# Altium footprint library MLACHQ_S.PCBLIB: 155 footprints (part 7 of 10)
Each footprint in its own frame and in the unit in brackets; x right, y up, seen from the top. Pads: shape width x height; smd on the part's side, far side on the other; paste and mask are expansions set on the pad; w line width, h text height; cw(c..) or ccw(c..) is an arc to the next point about the centre after c.
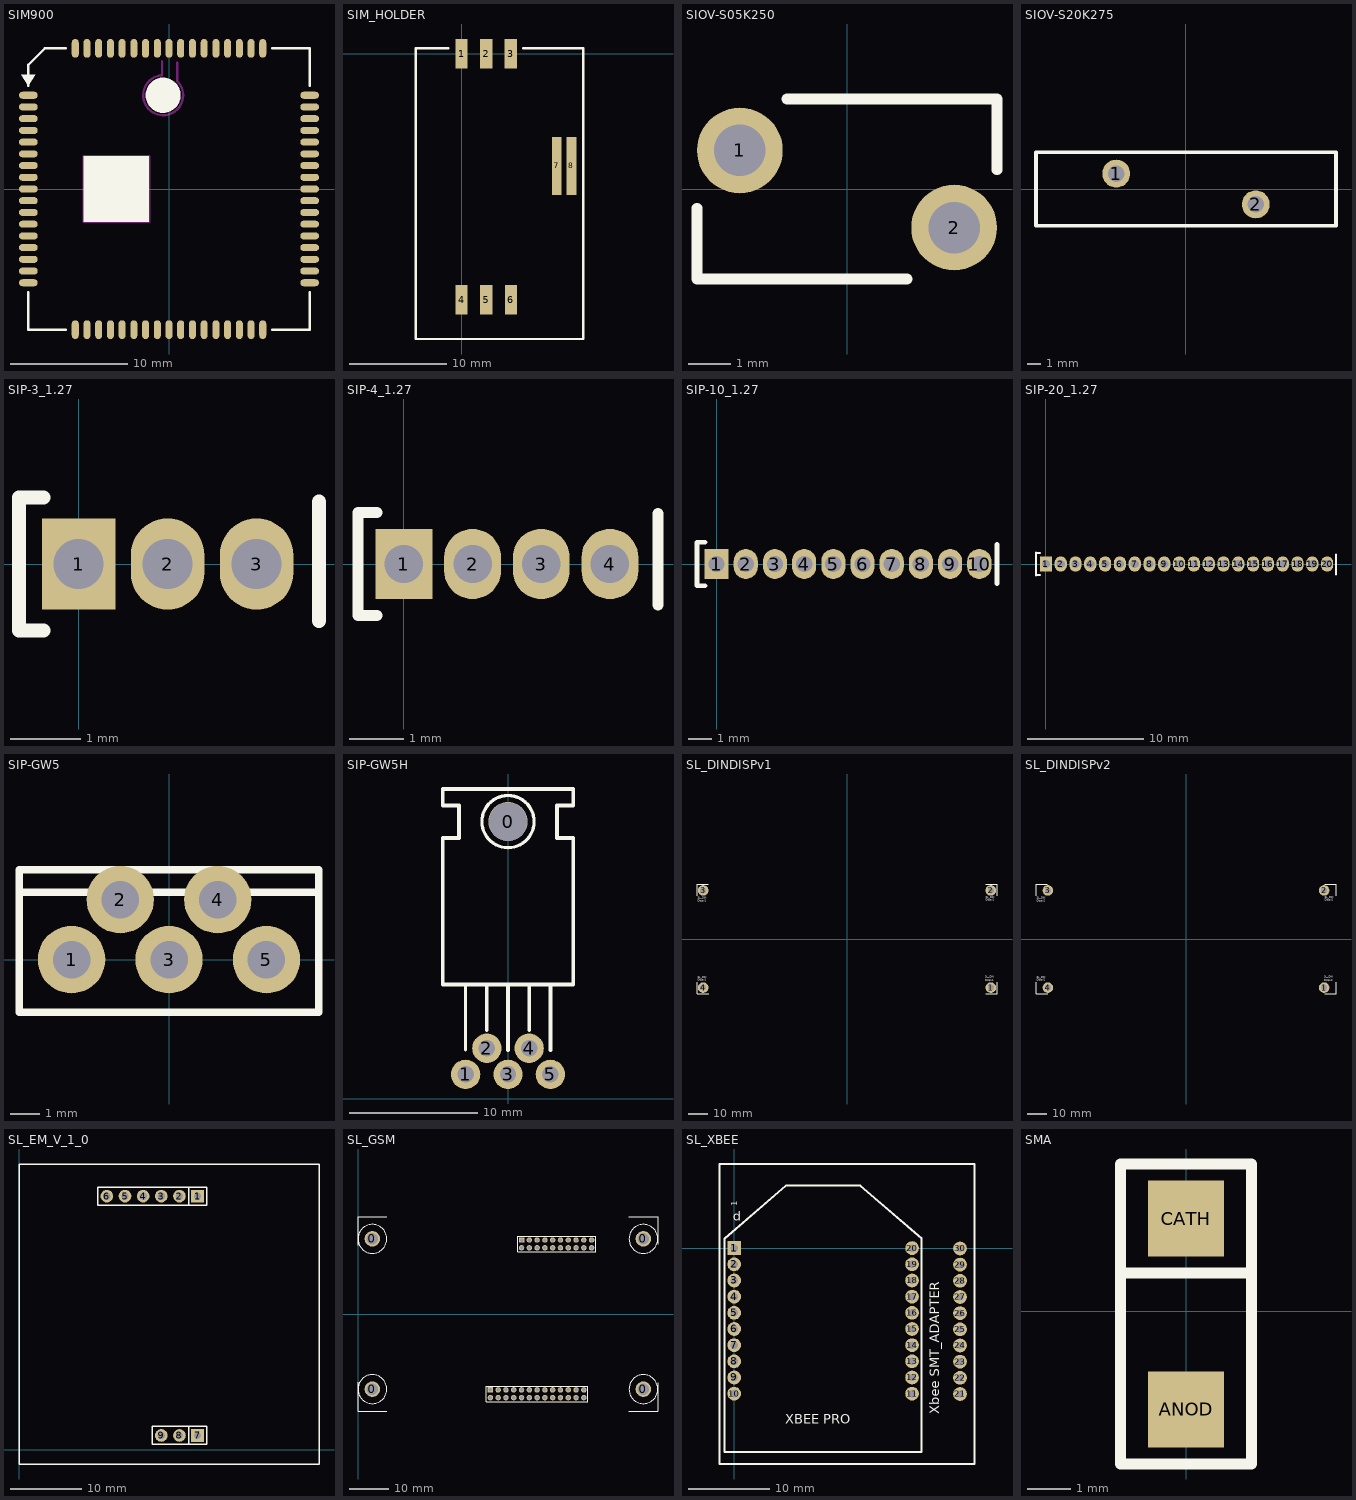
[diagram p6: the footprints below, top view; thin cyan lines are the x and y axes]

## SIM900 [mm]
pads (68):
  oval 1.6x0.6 smd: 1(-12,8) 2(-12,7) 3(-12,6) 4(-12,5) 5(-12,4) 6(-12,3) 7(-12,2) 8(-12,1) 9(-12,0) 10(-12,-1) 11(-12,-2) 12(-12,-3) 13(-12,-4) 14(-12,-5) 15(-12,-6) 16(-12,-7) 17(-12,-8) 35(12,-8) 36(12,-7) 37(12,-6) 38(12,-5) 39(12,-4) 40(12,-3) 41(12,-2) 42(12,-1) 43(12,0) 44(12,1) 45(12,2) 46(12,3) 47(12,4) 48(12,5) 49(12,6) 50(12,7) 51(12,8)
  oval 0.6x1.6 smd: 18(-8,-12) 19(-7,-12) 20(-6,-12) 21(-5,-12) 22(-4,-12) 23(-3,-12) 24(-2,-12) 25(-1,-12) 26(0,-12) 27(1,-12) 28(2,-12) 29(3,-12) 30(4,-12) 31(5,-12) 32(6,-12) 33(7,-12) 34(8,-12) 52(8,12) 53(7,12) 54(6,12) 55(5,12) 56(4,12) 57(3,12) 58(2,12) 59(1,12) 60(0,12) 61(-1,12) 62(-2,12) 63(-3,12) 64(-4,12) 65(-5,12) 66(-6,12) 67(-7,12) 68(-8,12)
TopLayer keep-out:
  lines w0.2: -0.648,9.696 ccw(c-0.5,8) 0.704,9.204 0.7,9.204 0.7,10.8 ; -0.6,9.7 -0.6,10.9 ; -7.3,-2.8 -1.7,-2.8 -1.7,2.8 -7.3,2.8 -7.3,-2.8
TopOverlay:
  circle w1.5: c-0.5,8 r0.75
  rectangle: -7.3,-2.8 -1.7,2.8
  region: -11.4,9.75 -12.6,9.75 -12,8.8
  lines w0.2: -12,-8.8 -12,-12 -8.8,-12 ; -12,8.8 -12,10.6 -10.6,12 -8.8,12 ; 8.8,-12 12,-12 12,-8.8 ; 8.8,12 12,12 12,8.8
3D body: height 1, standoff 0, extent -12,-6.3 -11.7,-5.7
3D body: height 1, standoff 0, extent -12,-12 12,12
3D body: height 1, standoff 0, extent -8.3,-12 -7.7,-11.7
3D body: height 1, standoff 0, extent -7.3,-12 -6.7,-11.7
3D body: height 1, standoff 0, extent -6.3,-12 -5.7,-11.7
3D body: height 1, standoff 0, extent -5.3,-12 -4.7,-11.7
3D body: height 1, standoff 0, extent -4.3,-12 -3.7,-11.7
3D body: height 1, standoff 0, extent -3.3,-12 -2.7,-11.7
3D body: height 1, standoff 0, extent -2.3,-12 -1.7,-11.7
3D body: height 1, standoff 0, extent -1.3,-12 -0.7,-11.7
3D body: height 1, standoff 0, extent -0.3,-12 0.3,-11.7
3D body: height 1, standoff 0, extent 0.7,-12 1.3,-11.7
3D body: height 1, standoff 0, extent 1.7,-12 2.3,-11.7
3D body: height 1, standoff 0, extent 2.7,-12 3.3,-11.7
3D body: height 1, standoff 0, extent 3.7,-12 4.3,-11.7
3D body: height 1, standoff 0, extent 4.7,-12 5.3,-11.7
3D body: height 1, standoff 0, extent 5.7,-12 6.3,-11.7
3D body: height 1, standoff 0, extent 6.7,-12 7.3,-11.7
3D body: height 1, standoff 0, extent 7.7,-12 8.3,-11.7
3D body: height 1, standoff 0, extent 11.7,-8.3 12,-7.7
3D body: height 1, standoff 0, extent 11.7,-7.3 12,-6.7
3D body: height 1, standoff 0, extent 11.7,-6.3 12,-5.7
3D body: height 1, standoff 0, extent 11.7,-5.3 12,-4.7
3D body: height 1, standoff 0, extent 11.7,-4.3 12,-3.7
3D body: height 1, standoff 0, extent 11.7,-3.3 12,-2.7
3D body: height 1, standoff 0, extent 11.7,-2.3 12,-1.7
3D body: height 1, standoff 0, extent 11.7,-1.3 12,-0.7
3D body: height 1, standoff 0, extent 11.7,-0.3 12,0.3
3D body: height 1, standoff 0, extent 11.7,0.7 12,1.3
3D body: height 1, standoff 0, extent 11.7,1.7 12,2.3
3D body: height 1, standoff 0, extent 11.7,2.7 12,3.3
3D body: height 1, standoff 0, extent 11.7,3.7 12,4.3
3D body: height 1, standoff 0, extent 11.7,4.7 12,5.3
3D body: height 1, standoff 0, extent 11.7,5.7 12,6.3
3D body: height 1, standoff 0, extent 11.7,6.7 12,7.3
3D body: height 1, standoff 0, extent 11.7,7.7 12,8.3
3D body: height 1, standoff 0, extent 7.7,11.7 8.3,12
3D body: height 1, standoff 0, extent 6.7,11.7 7.3,12
3D body: height 1, standoff 0, extent 5.7,11.7 6.3,12
3D body: height 1, standoff 0, extent 4.7,11.7 5.3,12
3D body: height 1, standoff 0, extent 3.7,11.7 4.3,12
3D body: height 1, standoff 0, extent 2.7,11.7 3.3,12
3D body: height 1, standoff 0, extent 1.7,11.7 2.3,12
3D body: height 1, standoff 0, extent 0.7,11.7 1.3,12
3D body: height 1, standoff 0, extent -0.3,11.7 0.3,12
3D body: height 1, standoff 0, extent -1.3,11.7 -0.7,12
3D body: height 1, standoff 0, extent -2.3,11.7 -1.7,12
3D body: height 1, standoff 0, extent -3.3,11.7 -2.7,12
3D body: height 1, standoff 0, extent -4.3,11.7 -3.7,12
3D body: height 1, standoff 0, extent -5.3,11.7 -4.7,12
3D body: height 1, standoff 0, extent -6.3,11.7 -5.7,12
3D body: height 1, standoff 0, extent -7.3,11.7 -6.7,12
3D body: height 1, standoff 0, extent -8.3,11.7 -7.7,12
3D body: height 1, standoff 0, extent -12,7.7 -11.7,8.3
3D body: height 1, standoff 0, extent -12,6.7 -11.7,7.3
3D body: height 1, standoff 0, extent -12,5.7 -11.7,6.3
3D body: height 1, standoff 0, extent -12,4.7 -11.7,5.3
3D body: height 1, standoff 0, extent -12,3.7 -11.7,4.3
3D body: height 1, standoff 0, extent -12,2.7 -11.7,3.3
3D body: height 1, standoff 0, extent -12,1.7 -11.7,2.3
3D body: height 1, standoff 0, extent -12,0.7 -11.7,1.3
3D body: height 1, standoff 0, extent -12,-0.3 -11.7,0.3
3D body: height 1, standoff 0, extent -12,-1.3 -11.7,-0.7
3D body: height 1, standoff 0, extent -12,-2.3 -11.7,-1.7
3D body: height 1, standoff 0, extent -12,-4.3 -11.7,-3.7
3D body: height 1, standoff 0, extent -12,-3.3 -11.7,-2.7
3D body: height 1, standoff 0, extent -12,-5.3 -11.7,-4.7
3D body: height 1, standoff 0, extent -12,-7.3 -11.7,-6.7
3D body: height 1, standoff 0, extent -12,-8.3 -11.7,-7.7
3D body: height 3, standoff 1, extent -11.2,-11.2 11.2,11.2

## SIM_HOLDER [mil]
pads (8):
  rect 50x120 smd: 1(0,0.1) 2(100,0) 3(200,0.1) 4(0,-998.91) 5(100.39,-998.91) 6(200.79,-998.91)
  rect 40x236 smd: 7(386.81,-455.61) 8(446.85,-455.61)
TopOverlay:
  lines w10: -54.13,21.76 -186.02,21.76 -186.02,-1158.36 -187.01,-1159.35 494.09,-1159.35 494.09,21.76 250,21.65

## SIOV-S05K250 [mm]
pads (2):
  round 2 hole 1.2: 1(-2.5,0.9) 2(2.5,-0.9)
TopOverlay:
  lines w0.254: -3.5,-0.45 -3.5,-2.1 1.4,-2.1 ; -1.4,2.1 3.5,2.1 3.5,0.45
3D body: height 1, standoff -3, extent 2,-1.399 2.996,-0.401
3D body: height 1, standoff -3, extent -3,0.401 -2.004,1.399
3D body: height 4, standoff 1, extent 1.9,-1.499 3.095,-0.301
3D body: height 4, standoff 1, extent -3.098,0.3 -1.902,1.498
3D body: height 7.49, standoff 0.51, extent -3.5,-2.1 3.472,2.1

## SIOV-S20K275 [mm]
pads (2):
  round 2 hole 1.2: 1(-5,1.1) 2(5,-1.1)
TopOverlay:
  lines w0.254: -10.75,-2.65 10.75,-2.65 10.75,2.65 -10.75,2.65 -10.75,-2.65
3D body: height 1, standoff -3, extent 4.5,-1.6 5.496,-0.602
3D body: height 1, standoff -3, extent -5.5,0.6 -4.504,1.598
3D body: height 6.3, standoff 1, extent 3.9,-2.2 6.091,-0.004
3D body: height 6.3, standoff 1, extent -6.1,0 -3.909,2.196
3D body: height 25.48, standoff 4.02, extent -10.75,-2.65 10.665,2.65

## SIP-3_1.27 [mm]
pads (3):
  rect 1.05x1.3 hole 0.711: 1(0,0)
  oval 1.05x1.3 hole 0.711: 2(1.27,0) 3(2.54,0)
TopOverlay:
  lines w0.2: -0.85,-0.95 -0.5,-0.95 ; -0.85,0.95 -0.5,0.95
  lines w0.203: -0.85,-0.95 -0.85,0.95 ; 3.429,-0.811 3.429,0.889
3D body: height 1.7, standoff 0, extent -0.635,-0.635 3.175,0.635
3D body: height 4.5, standoff 0, extent -0.25,-0.25 0.25,0.25
3D body: height 4.5, standoff 0, extent 1.02,-0.25 1.52,0.25
3D body: height 4.5, standoff 0, extent 2.29,-0.25 2.79,0.25

## SIP-4_1.27 [mm]
pads (4):
  rect 1.05x1.3 hole 0.711: 1(0,0)
  oval 1.05x1.3 hole 0.711: 2(1.27,0) 3(2.54,0) 4(3.81,0)
TopOverlay:
  lines w0.2: -0.85,-0.95 -0.5,-0.95 ; -0.85,0.95 -0.5,0.95
  lines w0.203: -0.85,-0.95 -0.85,0.95 ; 4.699,-0.762 4.699,0.938
3D body: height 1.7, standoff 0, extent -0.635,-0.635 4.445,0.635
3D body: height 4.5, standoff 0, extent -0.25,-0.25 0.25,0.25
3D body: height 4.5, standoff 0, extent 1.02,-0.25 1.52,0.25
3D body: height 4.5, standoff 0, extent 2.29,-0.25 2.79,0.25
3D body: height 4.5, standoff 0, extent 3.56,-0.25 4.06,0.25

## SIP-10_1.27 [mm]
pads (10):
  rect 1.05x1.3 hole 0.711: 1(0,0)
  oval 1.05x1.3 hole 0.711: 2(1.27,0) 3(2.54,0) 4(3.81,0) 5(5.08,0) 6(6.35,0) 7(7.62,0) 8(8.89,0) 9(10.16,0) 10(11.43,0)
TopOverlay:
  lines w0.2: -0.85,-0.95 -0.5,-0.95 ; -0.85,0.95 -0.5,0.95
  lines w0.203: -0.85,-0.95 -0.85,0.95 ; 12.2,-0.85 12.2,0.85
3D body: height 4.5, standoff 0, extent 11.18,-0.25 11.68,0.25
3D body: height 4.5, standoff 0, extent 9.91,-0.25 10.41,0.25
3D body: height 4.5, standoff 0, extent 8.64,-0.25 9.14,0.25
3D body: height 4.5, standoff 0, extent 7.37,-0.25 7.87,0.25
3D body: height 4.5, standoff 0, extent 6.1,-0.25 6.6,0.25
3D body: height 4.5, standoff 0, extent 4.83,-0.25 5.33,0.25
3D body: height 4.5, standoff 0, extent 3.56,-0.25 4.06,0.25
3D body: height 4.5, standoff 0, extent 2.29,-0.25 2.79,0.25
3D body: height 4.5, standoff 0, extent 1.02,-0.25 1.52,0.25
3D body: height 4.5, standoff 0, extent -0.25,-0.25 0.25,0.25
3D body: height 1.7, standoff 0, extent -0.635,-0.635 12.065,0.635

## SIP-20_1.27 [mm]
pads (20):
  rect 1.05x1.3 hole 0.711: 1(0,0)
  oval 1.05x1.3 hole 0.711: 2(1.27,0) 3(2.54,0) 4(3.81,0) 5(5.08,0) 6(6.35,0) 7(7.62,0) 8(8.89,0) 9(10.16,0) 10(11.43,0) 11(12.7,0) 12(13.97,0) 13(15.24,0) 14(16.51,0) 15(17.78,0) 16(19.05,0) 17(20.32,0) 18(21.59,0) 19(22.86,0) 20(24.13,0)
TopOverlay:
  lines w0.2: -0.85,-0.95 -0.5,-0.95 ; -0.85,0.95 -0.5,0.95
  lines w0.203: -0.85,-0.95 -0.85,0.95 ; 24.892,-0.889 24.892,0.811
3D body: height 4.5, standoff 0, extent 11.18,-0.25 11.68,0.25
3D body: height 4.5, standoff 0, extent 9.91,-0.25 10.41,0.25
3D body: height 4.5, standoff 0, extent 8.64,-0.25 9.14,0.25
3D body: height 4.5, standoff 0, extent 7.37,-0.25 7.87,0.25
3D body: height 4.5, standoff 0, extent 6.1,-0.25 6.6,0.25
3D body: height 4.5, standoff 0, extent 4.83,-0.25 5.33,0.25
3D body: height 4.5, standoff 0, extent 3.56,-0.25 4.06,0.25
3D body: height 4.5, standoff 0, extent 2.29,-0.25 2.79,0.25
3D body: height 4.5, standoff 0, extent 1.02,-0.25 1.52,0.25
3D body: height 4.5, standoff 0, extent -0.25,-0.25 0.25,0.25
3D body: height 1.7, standoff 0, extent -0.635,-0.635 24.892,0.635
3D body: height 4.5, standoff 0, extent 12.45,-0.25 12.95,0.25
3D body: height 4.5, standoff 0, extent 13.72,-0.25 14.22,0.25
3D body: height 4.5, standoff 0, extent 14.99,-0.25 15.49,0.25
3D body: height 4.5, standoff 0, extent 16.26,-0.25 16.76,0.25
3D body: height 4.5, standoff 0, extent 17.53,-0.25 18.03,0.25
3D body: height 4.5, standoff 0, extent 18.8,-0.25 19.3,0.25
3D body: height 4.5, standoff 0, extent 20.07,-0.25 20.57,0.25
3D body: height 4.5, standoff 0, extent 21.34,-0.25 21.84,0.25
3D body: height 4.5, standoff 0, extent 22.61,-0.25 23.11,0.25
3D body: height 4.5, standoff 0, extent 23.88,-0.25 24.38,0.25

## SIP-GW5 [mil]
pads (5):
  round 90 hole 50: 1(-130,0) 2(-65,80) 3(0,0) 4(65,80) 5(130,0)
TopOverlay:
  lines w10: -200,90 200,90 ; -200,-70 200,-70 200,120 -200,120 -200,-70
3D body: height 314.96, standoff 0, extent 110.39,-11.81 149.76,11.81
3D body: height 314.96, standoff 0, extent 45.39,68.19 84.76,91.81
3D body: height 314.96, standoff 0, extent -19.61,-11.81 19.76,11.81
3D body: height 314.96, standoff 0, extent -84.61,68.19 -45.24,91.81
3D body: height 314.96, standoff 0, extent -149.61,-11.81 -110.24,11.81
3D body: height 354.33, standoff 118.11, extent -200,-70 200,90
3D body: height 629.92, standoff 118.11, extent -200,90 200,120

## SIP-GW5H [mil]
pads (6):
  round 120 hole 118: 0(0,850)
  round 90 hole 50: 1(-130,75) 2(-65,155) 3(0,75) 4(65,155) 5(130,75)
TopOverlay:
  circle w10: c0,850 r80
  lines w10: -130,150 -130,350 ; -65,210 -65,350 ; 65,210 65,350
  lines w12: 0,150 0,350 ; 130,150 130,350 ; -200,350 -200,800 -150,800 -150,900 -200,900 -200,950 200,950 200,900 150,900 150,800 200,800 200,350 -200,350

## SL_DINDISPv1 [mm]
pads (4):
  round 5.5 hole 3.2 paste+0 mask+0.04: 1(74.9,-25.3) 2(74.9,25.3) 3(-74.9,25.3) 4(-74.9,-25.3)
TopOverlay:
  lines w0.3: -78.1,-22.45 -78.1,-28.45 -72.1,-28.45 ; -78.1,22.5 -78.1,28.5 -72.15,28.5 ; 72.15,28.5 78.1,28.5 78.1,22.5 ; 72.2,-28.45 78.1,-28.45 78.1,-22.45
  text "SL_DIN" at -77.8,21 h1
  text "SL_DIN" at -77.65,-20.35 h1
  text "SL_DIN" at 72.1,-20.2 h1
  text "SL_DIN" at 72.2,21.25 h1
  text "Dispv1" at 72.2,19.85 h1
  text "Dispv1" at 72,-21.9 h1
  text "Dispv1" at -77.6,-21.8 h1
  text "Dispv1" at -77.75,19.4 h1

## SL_DINDISPv2 [mm]
pads (4):
  round 5.5 hole 3.2 paste+0 mask+0.04: 1(71.9,-25.3) 2(71.9,25.3) 3(-71.9,25.3) 4(-71.9,-25.3)
TopOverlay:
  lines w0.3: -78.1,-22.45 -78.1,-28.45 -72.1,-28.45 ; -78.1,22.5 -78.1,28.5 -72.15,28.5 ; 72.15,28.5 78.1,28.5 78.1,22.5 ; 72.2,-28.45 78.1,-28.45 78.1,-22.45
  text "Dispv2" at -77.75,19.4 h1
  text "Dispv2" at -77.6,-21.8 h1
  text "Dispv2" at 72,-21.9 h1
  text "Dispv2" at 72.2,19.85 h1
  text "SL_DIN" at 72.2,21.25 h1
  text "SL_DIN" at 72.1,-20.2 h1
  text "SL_DIN" at -77.65,-20.35 h1
  text "SL_DIN" at -77.8,21 h1

## SL_EM_V_1_0 [mil]
pads (9):
  rect 70x70 hole 40: 1(984.25,1397.64) 7(984.25,78.74)
  round 70 hole 40: 2(884.25,1397.64) 3(784.25,1397.64) 4(684.25,1397.64) 5(584.25,1397.64) 6(484.25,1397.64) 8(884.25,78.74) 9(784.25,78.74)
TopOverlay:
  lines w7.87: 0,-78.74 1653.54,-78.74 1653.54,1574.8 0,1574.8 0,-78.74
  lines w8: 934.25,28.74 934.25,128.74 ; 934.25,1347.64 934.25,1447.64 ; 434.25,1347.64 1034.25,1347.64 1034.25,1447.64 434.25,1447.64 434.25,1347.64 ; 734.25,28.74 734.25,128.74 1034.25,128.74 1034.25,28.74 734.25,28.74
3D body: height 336.22, standoff -118.11, extent 571.65,1385.04 596.85,1410.24
3D body: height 336.22, standoff -118.11, extent 671.65,1385.04 696.85,1410.24
3D body: height 336.22, standoff -118.11, extent 771.65,1385.04 796.85,1410.24
3D body: height 336.22, standoff -118.11, extent 871.65,1385.04 896.85,1410.24
3D body: height 336.22, standoff -118.11, extent 971.65,1385.04 996.85,1410.24
3D body: height 336.22, standoff -118.11, extent 471.65,1385.04 496.85,1410.24
3D body: height 336.22, standoff -118.11, extent 974.06,65.04 999.25,90.24
3D body: height 336.22, standoff -118.11, extent 871.65,67.64 896.85,92.83
3D body: height 336.22, standoff -118.11, extent 771.65,67.64 796.85,92.83
3D body: height 100, standoff 0, extent 734.25,28.74 1034.25,128.74
3D body: height 100, standoff 0, extent 434.25,1347.64 1034.25,1447.64

## SL_GSM [mm]
pads (50):
  round 4 hole 3: 0(3.7,-19.3) 0(3.7,19.3) 0(73.3,-19.3) 0(73.3,19.3)
  rect 1.4x1.4 hole 0.9: 1(34,-19.5) 27(42,19)
  round 1.4 hole 0.9: 2(34,-21.5) 3(36,-19.5) 4(36,-21.5) 5(38,-19.5) 6(38,-21.5) 7(40,-19.5) 8(40,-21.5) 9(42,-19.5) 10(42,-21.5) 11(44,-19.5) 12(44,-21.5) 13(46,-19.5) 14(46,-21.5) 15(48,-19.5) 16(48,-21.5) 17(50,-19.5) 18(50,-21.5) 19(52,-19.5) 20(52,-21.5) 21(54,-19.5) 22(54,-21.5) 23(56,-19.5) 24(56,-21.5) 25(58,-19.5) 26(58,-21.5) 28(42,17) 29(44,19) 30(44,17) 31(46,19) 32(46,17) 33(48,19) 34(48,17) 35(50,19) 36(50,17) 37(52,19) 38(52,17) 39(54,19) 40(54,17) 41(56,19) 42(56,17) 43(58,19) 44(58,17) 45(60,19) 46(60,17)
TopOverlay:
  circle w0.254: c73.3,-19.3 r3.7
  circle w0.254: c73.3,19.3 r3.7
  circle w0.254: c3.7,-19.3 r3.7
  circle w0.254: c3.7,19.3 r3.7
  lines w0.254: 0,-17.55 0,-25 7.4,-25 ; 0,17.6 0,25 7.4,25 ; 69.55,25 77,25 ; 69.6,-25 77,-25 ; 77.05,-25 77.05,-17.6 ; 77.05,17.85 77.05,25 ; 33,-22.5 33,-18.5 59,-18.5 59,-22.5 33,-22.5 ; 41,16 41,20 61,20 61,16 41,16

## SL_XBEE [mm]
pads (30):
  rect 1.7x1.7 hole 0.9: 1(0,0)
  round 1.7 hole 0.9: 2(0,-2) 3(0,-4) 4(0,-6) 5(0,-8) 6(0,-10) 7(0,-12) 8(0,-14) 9(0,-16) 10(0,-18) 11(22,-18) 12(22,-16) 13(22,-14) 14(22,-12) 15(22,-10) 16(22,-8) 17(22,-6) 18(22,-4) 19(22,-2) 20(22,0) 21(27.935,-18.04) 22(27.935,-16.04) 23(27.935,-14.04) 24(27.935,-12.04) 25(27.935,-10.04) 26(27.935,-8.04) 27(27.935,-6.04) 28(27.935,-4.04) 29(27.935,-2.04) 30(27.935,-0.04)
TopOverlay:
  lines w0.254: -1.832,-26.702 -1.832,10.404 29.735,10.404 29.735,-26.702 -1.832,-26.702 ; -1.192,-25.22 -1.192,1.19 6.398,7.72 15.602,7.72 23.192,1.19 23.192,-25.22 -1.192,-25.22
  text "Xbee SMT_ADAPTER" at 25.8,-20.55 h2
  text "p" at 0.891,4.669 h2.03
  text "1" at 0.383,5.177 h0.76
  text "XBEE PRO" at 6.3,-22.15 h2
3D body: height 0, standoff -4.06, extent 21.7,-0.3 22.3,0.3
3D body: height 0, standoff -4.06, extent 21.7,-2.3 22.3,-1.7
3D body: height 0, standoff -4.06, extent 21.7,-4.3 22.3,-3.7
3D body: height 0, standoff -4.06, extent 21.7,-6.3 22.3,-5.7
3D body: height 0, standoff -4.06, extent 21.7,-8.3 22.3,-7.7
3D body: height 0, standoff -4.06, extent 21.7,-10.3 22.3,-9.7
3D body: height 0, standoff -4.06, extent 21.7,-12.3 22.3,-11.7
3D body: height 0, standoff -4.06, extent 21.7,-14.3 22.3,-13.7
3D body: height 0, standoff -4.06, extent 21.7,-16.3 22.3,-15.7
3D body: height 0, standoff -4.06, extent 21.7,-18.3 22.3,-17.7
3D body: height 0, standoff -4.06, extent -0.3,-18.3 0.3,-17.7
3D body: height 0, standoff -4.06, extent -0.3,-16.3 0.3,-15.7
3D body: height 0, standoff -4.06, extent -0.3,-14.3 0.3,-13.7
3D body: height 0, standoff -4.06, extent -0.3,-12.3 0.3,-11.7
3D body: height 0, standoff -4.06, extent -0.3,-10.3 0.3,-9.7
3D body: height 0, standoff -4.06, extent -0.3,-8.3 0.3,-7.7
3D body: height 0, standoff -4.06, extent -0.3,-6.3 0.3,-5.7
3D body: height 0, standoff -4.06, extent -0.3,-4.3 0.3,-3.7
3D body: height 0, standoff -4.06, extent -0.3,-2.3 0.3,-1.7
3D body: height 0, standoff -4.06, extent -0.3,-0.3 0.3,0.3
3D body: height 2.79, standoff 2, extent -1.192,-25.22 23.192,7.72
3D body: height 2, standoff 0, extent -1.192,-19.21 1.208,1.19
3D body: height 2, standoff 0, extent 20.692,-19.21 23.092,1.19
3D body: height 2, standoff 0, extent -1.092,-19.21 1.308,1.19
3D body: height 1, standoff 0, extent 2.787,-23.921 24.885,9.861
3D body: height 3.05, standoff 1, extent 4.438,-22.27 23.234,1.987

## SMA [mil]
pads (2):
  rect 70x70 smd: ANOD(0,-90) CATH(0,85)
TopOverlay:
  lines w10: -60,35 60,35 ; -60,-140 60,-140 60,135 -60,135 -60,-140
3D body: height 98.43, standoff 0, extent -59.06,-90.55 59.06,90.55
3D body: height 43.31, standoff 0, extent -31.5,-106.3 31.5,-90.55
3D body: height 43.31, standoff 0, extent -31.5,90.55 31.5,106.3